# Altium integrated library NX2012SA-32.768K-STD-MUB-1.IntLib: 1 symbol
Pins are listed as number, name and electrical type; pins without a type are passive.

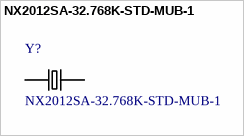
[diagram p0: symbol NX2012SA-32.768K-STD-MUB-1]

## NX2012SA-32.768K-STD-MUB-1
designator Y?
/ Crystal 32.7680khz 12.5pf Smd /; MF: NDK America,; MP: NX2012SA-32.768K-STD-MUB-1; Price: None; Package: SMD-2 NDK; Availability: Unavailable; SnapEDA_Link: https://www.snapeda.com/parts/NX2012SA-32.768K-STD-MUB-1/NDK%20America%2C%20Inc./view-part/?ref=snap; Value: *
footprint *XTAL_NX2012SA-32.768K-STD-MUB-1
pins: 1, 2